# Altium footprint library WA-SMSI.PcbLib: 89 footprints (part 3 of 6)
Each footprint in its own frame and in the unit in brackets; x right, y up, seen from the top. Pads: shape width x height; smd on the part's side, far side on the other; paste and mask are expansions set on the pad; w line width, h text height; cw(c..) or ccw(c..) is an arc to the next point about the centre after c.
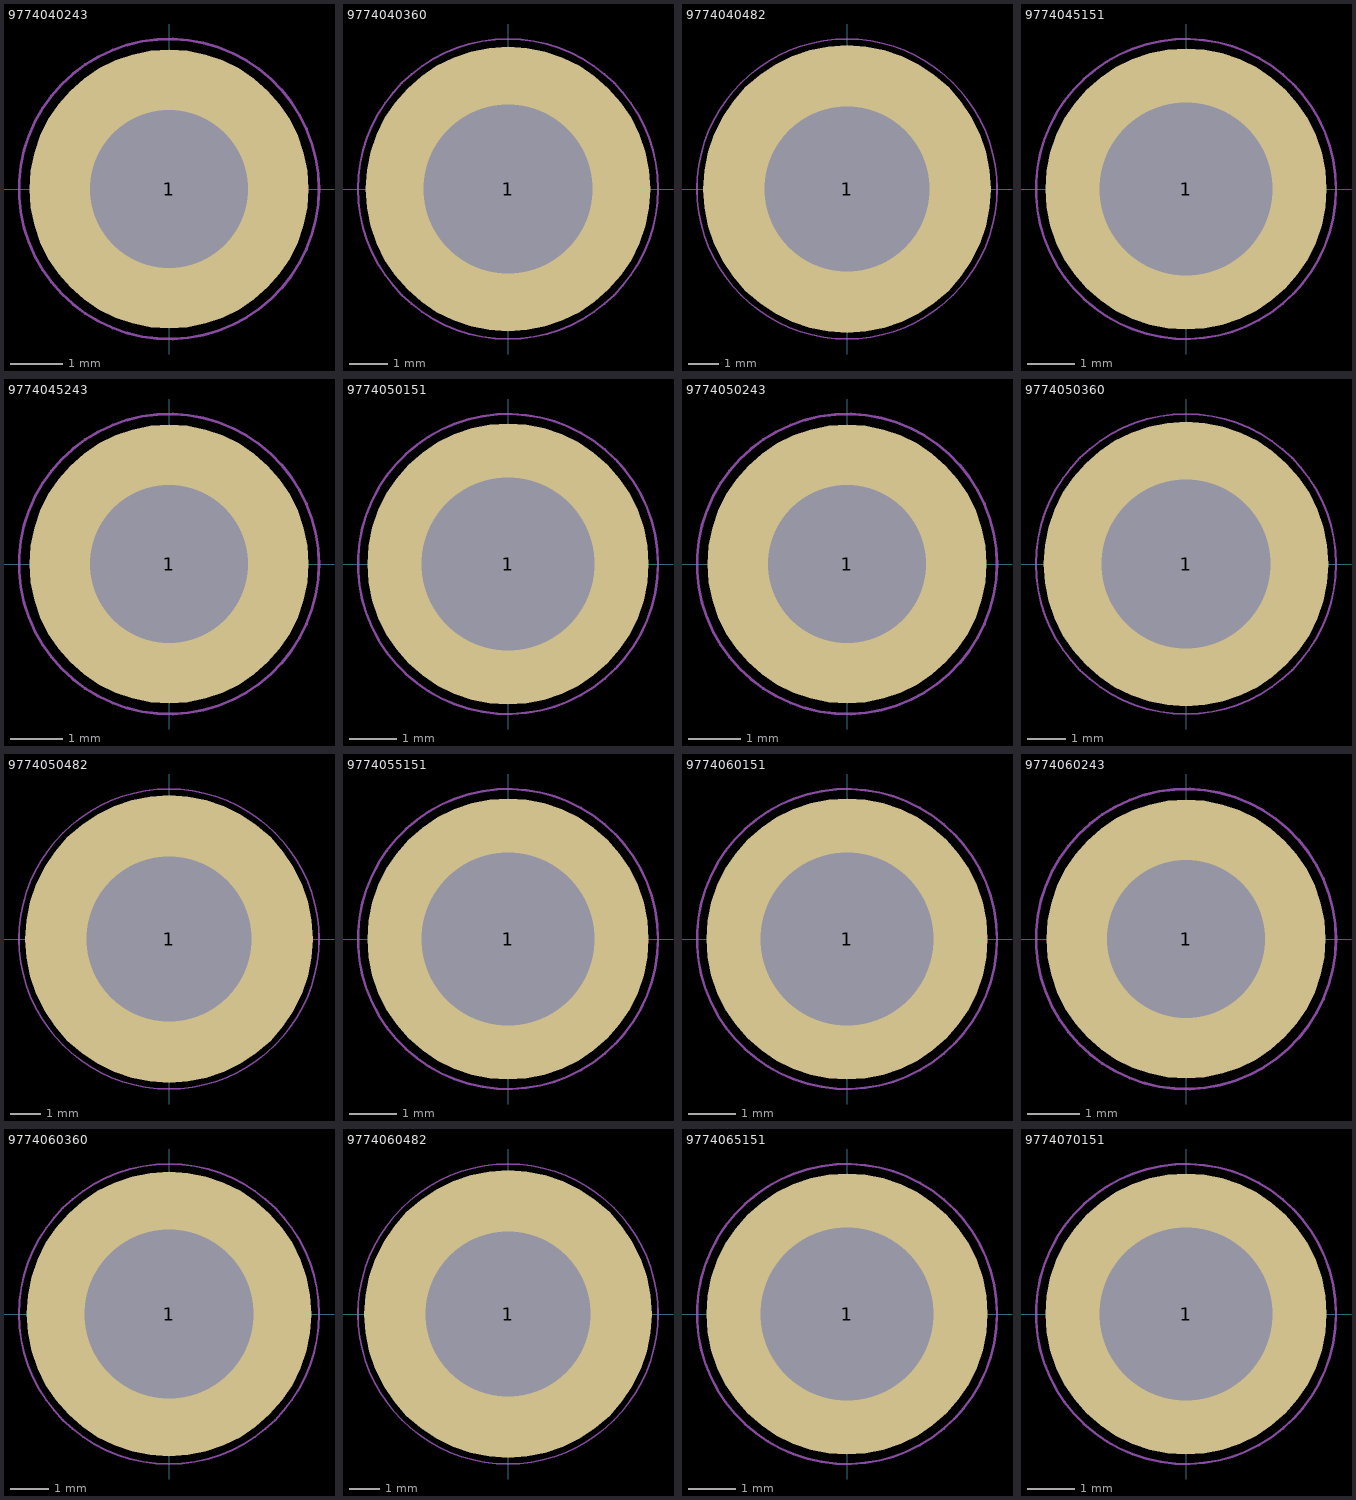
[diagram p2: the footprints below, top view; thin cyan lines are the x and y axes]

## 9774040243 [mm] "SMT Steel Spacer with internal Thread M2, height 4mm"
height 4
pads (1):
  round 5.3 / inner round 0 / far side round 0 hole 3 unplated: 1(0,0)
Top Paste:
  region: 0.3,2.542 0.513,2.517 0.924,2.397 1.31,2.21 1.659,1.962 1.962,1.659 2.21,1.31 2.397,0.924 2.517,0.513 2.542,0.3 1.521,0.3 1.494,0.411 1.418,0.627 1.31,0.829 1.174,1.012 1.012,1.174 0.829,1.31 0.627,1.418 0.411,1.494 0.3,1.521
  region: 2.542,-0.3 2.517,-0.513 2.397,-0.924 2.21,-1.31 1.962,-1.659 1.659,-1.962 1.31,-2.21 0.924,-2.397 0.513,-2.517 0.3,-2.542 0.3,-1.521 0.411,-1.494 0.627,-1.418 0.829,-1.31 1.012,-1.174 1.174,-1.012 1.31,-0.829 1.418,-0.627 1.494,-0.411 1.521,-0.3
  region: -0.3,-2.542 -0.513,-2.517 -0.924,-2.397 -1.31,-2.21 -1.659,-1.962 -1.962,-1.659 -2.21,-1.31 -2.397,-0.924 -2.517,-0.513 -2.542,-0.3 -1.521,-0.3 -1.494,-0.411 -1.418,-0.627 -1.31,-0.829 -1.174,-1.012 -1.012,-1.174 -0.829,-1.31 -0.627,-1.418 -0.411,-1.494 -0.3,-1.521
  region: -2.542,0.3 -2.517,0.513 -2.397,0.924 -2.21,1.31 -1.962,1.659 -1.659,1.962 -1.31,2.21 -0.924,2.397 -0.513,2.517 -0.3,2.542 -0.3,1.521 -0.411,1.494 -0.627,1.418 -0.829,1.31 -1.012,1.174 -1.174,1.012 -1.31,0.829 -1.418,0.627 -1.494,0.411 -1.521,0.3
Top Designator:
  text ".Designator" at -7.498,-0.5 h1.5
Top Component Outline:
  circle w0.1: c0,0 r2.175
Top 3D Body:
  circle w0.1: c0,0 r2.175
Top Courtyard:
  circle w0.05: c0,0 r2.85
  lines w0.05: -0.5,0 0.5,0 ; 0,-0.5 0,0.5
3D body "9774040243.stp": height 4, standoff -1.4, extent -2.175,-2.172 2.175,2.172

## 9774040360 [mm] "M3 Thread Internal, Length 4mm"
height 4
pads (1):
  round 7.4 / inner round 0 / far side round 0 hole 4.4 unplated: 1(0,0)
Top Paste:
  region: 0.4,3.613 0.4,2.204 0.566,2.167 0.886,2.057 1.186,1.9 1.46,1.699 1.699,1.46 1.9,1.186 2.057,0.886 2.167,0.566 2.204,0.4 3.613,0.4 3.59,0.603 3.5,1.003 3.365,1.389 3.188,1.758 2.97,2.105 2.715,2.425 2.426,2.715 2.106,2.97 1.759,3.188 1.39,3.365 1.003,3.5 0.604,3.59 0.4,3.613
  region: 3.613,-0.4 2.204,-0.4 2.167,-0.566 2.057,-0.886 1.9,-1.186 1.699,-1.46 1.46,-1.699 1.186,-1.9 0.886,-2.057 0.566,-2.167 0.4,-2.204 0.4,-3.613 0.603,-3.59 1.003,-3.5 1.389,-3.365 1.758,-3.188 2.105,-2.97 2.425,-2.715 2.715,-2.426 2.97,-2.106 3.188,-1.759 3.365,-1.39 3.5,-1.003 3.59,-0.604 3.613,-0.4
  region: -0.4,-3.613 -0.4,-2.204 -0.566,-2.167 -0.886,-2.057 -1.186,-1.9 -1.46,-1.699 -1.699,-1.46 -1.9,-1.186 -2.057,-0.886 -2.167,-0.566 -2.204,-0.4 -3.613,-0.4 -3.59,-0.603 -3.5,-1.003 -3.365,-1.389 -3.188,-1.758 -2.97,-2.105 -2.715,-2.425 -2.426,-2.715 -2.106,-2.97 -1.759,-3.188 -1.39,-3.365 -1.003,-3.5 -0.604,-3.59 -0.4,-3.613
  region: -3.613,0.4 -2.204,0.4 -2.167,0.566 -2.057,0.886 -1.9,1.186 -1.699,1.46 -1.46,1.699 -1.186,1.9 -0.886,2.057 -0.566,2.167 -0.4,2.204 -0.4,3.613 -0.603,3.59 -1.003,3.5 -1.389,3.365 -1.758,3.188 -2.105,2.97 -2.425,2.715 -2.715,2.426 -2.97,2.106 -3.188,1.759 -3.365,1.39 -3.5,1.003 -3.59,0.604 -3.613,0.4
Top Designator:
  text ".Designator" at -7.498,-0.5 h1.5
Top Component Outline:
  circle w0.1: c0,0 r3
Top 3D Body:
  circle w0.1: c0,0 r3
Top Courtyard:
  circle w0.05: c0,0 r3.9
  lines w0.05: -0.5,0 0.5,0 ; 0,-0.5 0,0.5
3D body "9774040360.stp": height 4, standoff -1.4, extent -3,-3 3,3

## 9774040482 [mm] "SMT Steel Spacer with internal Thread M4, height 4mm"
height 4
pads (1):
  round 9.4 / inner round 0 / far side round 0 hole 5.4 unplated: 1(0,0)
Top Paste:
  region: 0.4,4.618 0.4,2.711 0.615,2.67 1.032,2.538 1.422,2.342 1.777,2.086 2.086,1.777 2.342,1.422 2.538,1.032 2.67,0.615 2.711,0.4 4.618,0.4 4.594,0.669 4.485,1.199 4.316,1.712 4.087,2.202 3.804,2.662 3.469,3.086 3.086,3.469 2.662,3.804 2.202,4.087 1.712,4.316 1.199,4.485 0.669,4.594
  region: 4.618,-0.4 2.711,-0.4 2.67,-0.615 2.538,-1.032 2.342,-1.422 2.086,-1.777 1.777,-2.086 1.422,-2.342 1.032,-2.538 0.615,-2.67 0.4,-2.711 0.4,-4.618 0.669,-4.594 1.199,-4.485 1.712,-4.316 2.202,-4.087 2.662,-3.804 3.086,-3.469 3.469,-3.086 3.804,-2.662 4.087,-2.202 4.316,-1.712 4.485,-1.199 4.594,-0.669
  region: -0.4,-4.618 -0.4,-2.711 -0.615,-2.67 -1.032,-2.538 -1.422,-2.342 -1.777,-2.086 -2.086,-1.777 -2.342,-1.422 -2.538,-1.032 -2.67,-0.615 -2.711,-0.4 -4.618,-0.4 -4.594,-0.669 -4.485,-1.199 -4.316,-1.712 -4.087,-2.202 -3.804,-2.662 -3.469,-3.086 -3.086,-3.469 -2.662,-3.804 -2.202,-4.087 -1.712,-4.316 -1.199,-4.485 -0.669,-4.594
  region: -4.618,0.4 -2.711,0.4 -2.67,0.615 -2.538,1.032 -2.342,1.422 -2.086,1.777 -1.777,2.086 -1.422,2.342 -1.032,2.538 -0.615,2.67 -0.4,2.711 -0.4,4.618 -0.669,4.594 -1.199,4.485 -1.712,4.316 -2.202,4.087 -2.662,3.804 -3.086,3.469 -3.469,3.086 -3.804,2.662 -4.087,2.202 -4.316,1.712 -4.485,1.199 -4.594,0.669
Top Designator:
  text ".Designator" at -7.498,-0.5 h1.5
Top Component Outline:
  circle w0.1: c0,0 r4.1
Top 3D Body:
  circle w0.1: c0,0 r4.1
Top Courtyard:
  circle w0.05: c0,0 r4.9
  lines w0.05: -0.5,0 0.5,0 ; 0,-0.5 0,0.5
3D body "9774040482.stp": height 4, standoff -1.4, extent -4.1,-4.1 4.1,4.1

## 9774045151 [mm] "SMT Steel Spacer with internal Thread M2.5, height 4.5mm"
height 4.5
pads (1):
  round 6 / inner round 0 / far side round 0 hole 3.7 unplated: 1(0,0)
Top Paste:
  region: -2.902,0.325 -2.874,0.57 -2.738,1.044 -2.524,1.488 -2.239,1.89 -1.89,2.239 -1.488,2.524 -1.044,2.738 -0.57,2.874 -0.325,2.902 -0.325,1.872 -0.467,1.842 -0.743,1.749 -1.002,1.615 -1.237,1.443 -1.442,1.237 -1.614,1.002 -1.748,0.744 -1.842,0.468 -1.872,0.325
  region: -0.325,-2.902 -0.57,-2.874 -1.044,-2.738 -1.488,-2.524 -1.89,-2.239 -2.239,-1.89 -2.524,-1.488 -2.738,-1.044 -2.874,-0.57 -2.902,-0.325 -1.872,-0.325 -1.842,-0.467 -1.749,-0.743 -1.615,-1.002 -1.443,-1.237 -1.237,-1.442 -1.002,-1.614 -0.744,-1.748 -0.468,-1.842 -0.325,-1.872
  region: 2.902,-0.325 2.874,-0.57 2.738,-1.044 2.524,-1.488 2.239,-1.89 1.89,-2.239 1.488,-2.524 1.044,-2.738 0.57,-2.874 0.325,-2.902 0.325,-1.872 0.467,-1.842 0.743,-1.749 1.002,-1.615 1.237,-1.443 1.442,-1.237 1.614,-1.002 1.748,-0.744 1.842,-0.468 1.872,-0.325
  region: 0.325,2.902 0.57,2.874 1.044,2.738 1.488,2.524 1.89,2.239 2.239,1.89 2.524,1.488 2.738,1.044 2.874,0.57 2.902,0.325 1.872,0.325 1.842,0.467 1.749,0.743 1.615,1.002 1.443,1.237 1.237,1.442 1.002,1.614 0.744,1.748 0.468,1.842 0.325,1.872
Top Designator:
  text ".Designator" at -7.498,-0.5 h1.5
Top Component Outline:
  circle w0.1: c0,0 r2.55
Top 3D Body:
  circle w0.1: c0,0 r2.55
Top Courtyard:
  circle w0.05: c0,0 r3.2
  lines w0.05: -0.5,0 0.5,0 ; 0,-0.5 0,0.5
3D body "9774045151.stp": height 4.5, standoff -1.4, extent -2.55,-2.547 2.55,2.547

## 9774045243 [mm] "SMT Steel Spacer with internal Thread M2, height 4.5mm"
height 4.5
pads (1):
  round 5.3 / inner round 0 / far side round 0 hole 3 unplated: 1(0,0)
Top Paste:
  region: -2.542,0.3 -2.517,0.513 -2.397,0.924 -2.21,1.31 -1.962,1.659 -1.659,1.962 -1.31,2.21 -0.924,2.397 -0.513,2.517 -0.3,2.542 -0.3,1.521 -0.411,1.494 -0.627,1.418 -0.829,1.31 -1.012,1.174 -1.174,1.012 -1.31,0.829 -1.418,0.627 -1.494,0.411 -1.521,0.3
  region: -0.3,-2.542 -0.513,-2.517 -0.924,-2.397 -1.31,-2.21 -1.659,-1.962 -1.962,-1.659 -2.21,-1.31 -2.397,-0.924 -2.517,-0.513 -2.542,-0.3 -1.521,-0.3 -1.494,-0.411 -1.418,-0.627 -1.31,-0.829 -1.174,-1.012 -1.012,-1.174 -0.829,-1.31 -0.627,-1.418 -0.411,-1.494 -0.3,-1.521
  region: 2.542,-0.3 2.517,-0.513 2.397,-0.924 2.21,-1.31 1.962,-1.659 1.659,-1.962 1.31,-2.21 0.924,-2.397 0.513,-2.517 0.3,-2.542 0.3,-1.521 0.411,-1.494 0.627,-1.418 0.829,-1.31 1.012,-1.174 1.174,-1.012 1.31,-0.829 1.418,-0.627 1.494,-0.411 1.521,-0.3
  region: 0.3,2.542 0.513,2.517 0.924,2.397 1.31,2.21 1.659,1.962 1.962,1.659 2.21,1.31 2.397,0.924 2.517,0.513 2.542,0.3 1.521,0.3 1.494,0.411 1.418,0.627 1.31,0.829 1.174,1.012 1.012,1.174 0.829,1.31 0.627,1.418 0.411,1.494 0.3,1.521
Top Designator:
  text ".Designator" at -7.498,-0.5 h1.5
Top Component Outline:
  circle w0.1: c0,0 r2.175
Top 3D Body:
  circle w0.1: c0,0 r2.175
Top Courtyard:
  circle w0.05: c0,0 r2.85
  lines w0.05: -0.5,0 0.5,0 ; 0,-0.5 0,0.5
3D body "9774045243.stp": height 4.5, standoff -1.4, extent -2.175,-2.172 2.175,2.172

## 9774050151 [mm] "SMT Steel Spacer with internal Thread M2.5, height 5mm"
height 5
pads (1):
  round 6 / inner round 0 / far side round 0 hole 3.7 unplated: 1(0,0)
Top Paste:
  region: -2.902,0.325 -2.874,0.57 -2.738,1.044 -2.524,1.488 -2.239,1.89 -1.89,2.239 -1.488,2.524 -1.044,2.738 -0.57,2.874 -0.325,2.902 -0.325,1.872 -0.467,1.842 -0.743,1.749 -1.002,1.615 -1.237,1.443 -1.442,1.237 -1.614,1.002 -1.748,0.744 -1.842,0.468 -1.872,0.325
  region: -0.325,-2.902 -0.57,-2.874 -1.044,-2.738 -1.488,-2.524 -1.89,-2.239 -2.239,-1.89 -2.524,-1.488 -2.738,-1.044 -2.874,-0.57 -2.902,-0.325 -1.872,-0.325 -1.842,-0.467 -1.749,-0.743 -1.615,-1.002 -1.443,-1.237 -1.237,-1.442 -1.002,-1.614 -0.744,-1.748 -0.468,-1.842 -0.325,-1.872
  region: 2.902,-0.325 2.874,-0.57 2.738,-1.044 2.524,-1.488 2.239,-1.89 1.89,-2.239 1.488,-2.524 1.044,-2.738 0.57,-2.874 0.325,-2.902 0.325,-1.872 0.467,-1.842 0.743,-1.749 1.002,-1.615 1.237,-1.443 1.442,-1.237 1.614,-1.002 1.748,-0.744 1.842,-0.468 1.872,-0.325
  region: 0.325,2.902 0.57,2.874 1.044,2.738 1.488,2.524 1.89,2.239 2.239,1.89 2.524,1.488 2.738,1.044 2.874,0.57 2.902,0.325 1.872,0.325 1.842,0.467 1.749,0.743 1.615,1.002 1.443,1.237 1.237,1.442 1.002,1.614 0.744,1.748 0.468,1.842 0.325,1.872
Top Designator:
  text ".Designator" at -7.498,-0.5 h1.5
Top Component Outline:
  circle w0.1: c0,0 r2.55
Top 3D Body:
  circle w0.1: c0,0 r2.55
Top Courtyard:
  circle w0.05: c0,0 r3.2
  lines w0.05: -0.5,0 0.5,0 ; 0,-0.5 0,0.5
3D body "9774050151.stp": height 5, standoff -1.4, extent -2.55,-2.547 2.55,2.547

## 9774050243 [mm] "SMT Steel Spacer with internal Thread M2, height 5mm"
height 5
pads (1):
  round 5.3 / inner round 0 / far side round 0 hole 3 unplated: 1(0,0)
Top Paste:
  region: -2.542,0.3 -2.517,0.513 -2.397,0.924 -2.21,1.31 -1.962,1.659 -1.659,1.962 -1.31,2.21 -0.924,2.397 -0.513,2.517 -0.3,2.542 -0.3,1.521 -0.411,1.494 -0.627,1.418 -0.829,1.31 -1.012,1.174 -1.174,1.012 -1.31,0.829 -1.418,0.627 -1.494,0.411 -1.521,0.3
  region: -0.3,-2.542 -0.513,-2.517 -0.924,-2.397 -1.31,-2.21 -1.659,-1.962 -1.962,-1.659 -2.21,-1.31 -2.397,-0.924 -2.517,-0.513 -2.542,-0.3 -1.521,-0.3 -1.494,-0.411 -1.418,-0.627 -1.31,-0.829 -1.174,-1.012 -1.012,-1.174 -0.829,-1.31 -0.627,-1.418 -0.411,-1.494 -0.3,-1.521
  region: 2.542,-0.3 2.517,-0.513 2.397,-0.924 2.21,-1.31 1.962,-1.659 1.659,-1.962 1.31,-2.21 0.924,-2.397 0.513,-2.517 0.3,-2.542 0.3,-1.521 0.411,-1.494 0.627,-1.418 0.829,-1.31 1.012,-1.174 1.174,-1.012 1.31,-0.829 1.418,-0.627 1.494,-0.411 1.521,-0.3
  region: 0.3,2.542 0.513,2.517 0.924,2.397 1.31,2.21 1.659,1.962 1.962,1.659 2.21,1.31 2.397,0.924 2.517,0.513 2.542,0.3 1.521,0.3 1.494,0.411 1.418,0.627 1.31,0.829 1.174,1.012 1.012,1.174 0.829,1.31 0.627,1.418 0.411,1.494 0.3,1.521
Top Designator:
  text ".Designator" at -7.498,-0.5 h1.5
Top Component Outline:
  circle w0.1: c0,0 r2.175
Top 3D Body:
  circle w0.1: c0,0 r2.175
Top Courtyard:
  circle w0.05: c0,0 r2.85
  lines w0.05: -0.5,0 0.5,0 ; 0,-0.5 0,0.5
3D body "9774050243.stp": height 5, standoff -1.4, extent -2.175,-2.172 2.175,2.172

## 9774050360 [mm] "M3 Thread Internal, Length 5mm"
height 5
pads (1):
  round 7.4 / inner round 0 / far side round 0 hole 4.4 unplated: 1(0,0)
Top Paste:
  region: -3.613,0.4 -2.204,0.4 -2.167,0.566 -2.057,0.886 -1.9,1.186 -1.699,1.46 -1.46,1.699 -1.186,1.9 -0.886,2.057 -0.566,2.167 -0.4,2.204 -0.4,3.613 -0.603,3.59 -1.003,3.5 -1.389,3.365 -1.758,3.188 -2.105,2.97 -2.425,2.715 -2.715,2.426 -2.97,2.106 -3.188,1.759 -3.365,1.39 -3.5,1.003 -3.59,0.604 -3.613,0.4
  region: -0.4,-3.613 -0.4,-2.204 -0.566,-2.167 -0.886,-2.057 -1.186,-1.9 -1.46,-1.699 -1.699,-1.46 -1.9,-1.186 -2.057,-0.886 -2.167,-0.566 -2.204,-0.4 -3.613,-0.4 -3.59,-0.603 -3.5,-1.003 -3.365,-1.389 -3.188,-1.758 -2.97,-2.105 -2.715,-2.425 -2.426,-2.715 -2.106,-2.97 -1.759,-3.188 -1.39,-3.365 -1.003,-3.5 -0.604,-3.59 -0.4,-3.613
  region: 3.613,-0.4 2.204,-0.4 2.167,-0.566 2.057,-0.886 1.9,-1.186 1.699,-1.46 1.46,-1.699 1.186,-1.9 0.886,-2.057 0.566,-2.167 0.4,-2.204 0.4,-3.613 0.603,-3.59 1.003,-3.5 1.389,-3.365 1.758,-3.188 2.105,-2.97 2.425,-2.715 2.715,-2.426 2.97,-2.106 3.188,-1.759 3.365,-1.39 3.5,-1.003 3.59,-0.604 3.613,-0.4
  region: 0.4,3.613 0.4,2.204 0.566,2.167 0.886,2.057 1.186,1.9 1.46,1.699 1.699,1.46 1.9,1.186 2.057,0.886 2.167,0.566 2.204,0.4 3.613,0.4 3.59,0.603 3.5,1.003 3.365,1.389 3.188,1.758 2.97,2.105 2.715,2.425 2.426,2.715 2.106,2.97 1.759,3.188 1.39,3.365 1.003,3.5 0.604,3.59 0.4,3.613
Top Designator:
  text ".Designator" at -7.498,-0.5 h1.5
Top Component Outline:
  circle w0.1: c0,0 r3
Top 3D Body:
  circle w0.1: c0,0 r3
Top Courtyard:
  circle w0.05: c0,0 r3.9
  lines w0.05: -0.5,0 0.5,0 ; 0,-0.5 0,0.5
3D body "9774050360.stp": height 5, standoff -1.4, extent -3,-3 3,3

## 9774050482 [mm] "SMT Steel Spacer with internal Thread M4, height 5mm"
height 5
pads (1):
  round 9.4 / inner round 0 / far side round 0 hole 5.4 unplated: 1(0,0)
Top Paste:
  region: 0.4,4.618 0.4,2.711 0.615,2.67 1.032,2.538 1.422,2.342 1.777,2.086 2.086,1.777 2.342,1.422 2.538,1.032 2.67,0.615 2.711,0.4 4.618,0.4 4.594,0.669 4.485,1.199 4.316,1.712 4.087,2.202 3.804,2.662 3.469,3.086 3.086,3.469 2.662,3.804 2.202,4.087 1.712,4.316 1.199,4.485 0.669,4.594
  region: 4.618,-0.4 2.711,-0.4 2.67,-0.615 2.538,-1.032 2.342,-1.422 2.086,-1.777 1.777,-2.086 1.422,-2.342 1.032,-2.538 0.615,-2.67 0.4,-2.711 0.4,-4.618 0.669,-4.594 1.199,-4.485 1.712,-4.316 2.202,-4.087 2.662,-3.804 3.086,-3.469 3.469,-3.086 3.804,-2.662 4.087,-2.202 4.316,-1.712 4.485,-1.199 4.594,-0.669
  region: -0.4,-4.618 -0.4,-2.711 -0.615,-2.67 -1.032,-2.538 -1.422,-2.342 -1.777,-2.086 -2.086,-1.777 -2.342,-1.422 -2.538,-1.032 -2.67,-0.615 -2.711,-0.4 -4.618,-0.4 -4.594,-0.669 -4.485,-1.199 -4.316,-1.712 -4.087,-2.202 -3.804,-2.662 -3.469,-3.086 -3.086,-3.469 -2.662,-3.804 -2.202,-4.087 -1.712,-4.316 -1.199,-4.485 -0.669,-4.594
  region: -4.618,0.4 -2.711,0.4 -2.67,0.615 -2.538,1.032 -2.342,1.422 -2.086,1.777 -1.777,2.086 -1.422,2.342 -1.032,2.538 -0.615,2.67 -0.4,2.711 -0.4,4.618 -0.669,4.594 -1.199,4.485 -1.712,4.316 -2.202,4.087 -2.662,3.804 -3.086,3.469 -3.469,3.086 -3.804,2.662 -4.087,2.202 -4.316,1.712 -4.485,1.199 -4.594,0.669
Top Designator:
  text ".Designator" at -7.498,-0.5 h1.5
Top Component Outline:
  circle w0.1: c0,0 r4.1
Top 3D Body:
  circle w0.1: c0,0 r4.1
Top Courtyard:
  circle w0.05: c0,0 r4.9
  lines w0.05: -0.5,0 0.5,0 ; 0,-0.5 0,0.5
3D body "9774050482.stp": height 5, standoff -1.4, extent -4.1,-4.1 4.1,4.1

## 9774055151 [mm] "SMT Steel Spacer with internal Thread M2.5, height 5.5mm"
height 5.5
pads (1):
  round 6 / inner round 0 / far side round 0 hole 3.7 unplated: 1(0,0)
Top Paste:
  region: -2.902,0.325 -2.874,0.57 -2.738,1.044 -2.524,1.488 -2.239,1.89 -1.89,2.239 -1.488,2.524 -1.044,2.738 -0.57,2.874 -0.325,2.902 -0.325,1.872 -0.467,1.842 -0.743,1.749 -1.002,1.615 -1.237,1.443 -1.442,1.237 -1.614,1.002 -1.748,0.744 -1.842,0.468 -1.872,0.325
  region: -0.325,-2.902 -0.57,-2.874 -1.044,-2.738 -1.488,-2.524 -1.89,-2.239 -2.239,-1.89 -2.524,-1.488 -2.738,-1.044 -2.874,-0.57 -2.902,-0.325 -1.872,-0.325 -1.842,-0.467 -1.749,-0.743 -1.615,-1.002 -1.443,-1.237 -1.237,-1.442 -1.002,-1.614 -0.744,-1.748 -0.468,-1.842 -0.325,-1.872
  region: 2.902,-0.325 2.874,-0.57 2.738,-1.044 2.524,-1.488 2.239,-1.89 1.89,-2.239 1.488,-2.524 1.044,-2.738 0.57,-2.874 0.325,-2.902 0.325,-1.872 0.467,-1.842 0.743,-1.749 1.002,-1.615 1.237,-1.443 1.442,-1.237 1.614,-1.002 1.748,-0.744 1.842,-0.468 1.872,-0.325
  region: 0.325,2.902 0.57,2.874 1.044,2.738 1.488,2.524 1.89,2.239 2.239,1.89 2.524,1.488 2.738,1.044 2.874,0.57 2.902,0.325 1.872,0.325 1.842,0.467 1.749,0.743 1.615,1.002 1.443,1.237 1.237,1.442 1.002,1.614 0.744,1.748 0.468,1.842 0.325,1.872
Top Designator:
  text ".Designator" at -7.498,-0.5 h1.5
Top Component Outline:
  circle w0.1: c0,0 r2.55
Top 3D Body:
  circle w0.1: c0,0 r2.55
Top Courtyard:
  circle w0.05: c0,0 r3.2
  lines w0.05: -0.5,0 0.5,0 ; 0,-0.5 0,0.5
3D body "9774055151.stp": height 5.5, standoff -1.4, extent -2.55,-2.547 2.55,2.547

## 9774060151 [mm] "SMT Steel Spacer with internal Thread M2.5, height 6mm"
height 6
pads (1):
  round 6 / inner round 0 / far side round 0 hole 3.7 unplated: 1(0,0)
Top Paste:
  region: 0.325,2.902 0.57,2.874 1.044,2.738 1.488,2.524 1.89,2.239 2.239,1.89 2.524,1.488 2.738,1.044 2.874,0.57 2.902,0.325 1.872,0.325 1.842,0.467 1.749,0.743 1.615,1.002 1.443,1.237 1.237,1.442 1.002,1.614 0.744,1.748 0.468,1.842 0.325,1.872
  region: 2.902,-0.325 2.874,-0.57 2.738,-1.044 2.524,-1.488 2.239,-1.89 1.89,-2.239 1.488,-2.524 1.044,-2.738 0.57,-2.874 0.325,-2.902 0.325,-1.872 0.467,-1.842 0.743,-1.749 1.002,-1.615 1.237,-1.443 1.442,-1.237 1.614,-1.002 1.748,-0.744 1.842,-0.468 1.872,-0.325
  region: -0.325,-2.902 -0.57,-2.874 -1.044,-2.738 -1.488,-2.524 -1.89,-2.239 -2.239,-1.89 -2.524,-1.488 -2.738,-1.044 -2.874,-0.57 -2.902,-0.325 -1.872,-0.325 -1.842,-0.467 -1.749,-0.743 -1.615,-1.002 -1.443,-1.237 -1.237,-1.442 -1.002,-1.614 -0.744,-1.748 -0.468,-1.842 -0.325,-1.872
  region: -2.902,0.325 -2.874,0.57 -2.738,1.044 -2.524,1.488 -2.239,1.89 -1.89,2.239 -1.488,2.524 -1.044,2.738 -0.57,2.874 -0.325,2.902 -0.325,1.872 -0.467,1.842 -0.743,1.749 -1.002,1.615 -1.237,1.443 -1.442,1.237 -1.614,1.002 -1.748,0.744 -1.842,0.468 -1.872,0.325
Top Designator:
  text ".Designator" at -7.498,-0.5 h1.5
Top Component Outline:
  circle w0.1: c0,0 r2.55
Top 3D Body:
  circle w0.1: c0,0 r2.55
Top Courtyard:
  circle w0.05: c0,0 r3.2
  lines w0.05: -0.5,0 0.5,0 ; 0,-0.5 0,0.5
3D body "9774060151.stp": height 6, standoff -1.4, extent -2.55,-2.547 2.55,2.547

## 9774060243 [mm] "SMT Steel Spacer with internal Thread M2, height 6mm"
height 6
pads (1):
  round 5.3 / inner round 0 / far side round 0 hole 3 unplated: 1(0,0)
Top Paste:
  region: 0.3,2.542 0.513,2.517 0.924,2.397 1.31,2.21 1.659,1.962 1.962,1.659 2.21,1.31 2.397,0.924 2.517,0.513 2.542,0.3 1.521,0.3 1.494,0.411 1.418,0.627 1.31,0.829 1.174,1.012 1.012,1.174 0.829,1.31 0.627,1.418 0.411,1.494 0.3,1.521
  region: 2.542,-0.3 2.517,-0.513 2.397,-0.924 2.21,-1.31 1.962,-1.659 1.659,-1.962 1.31,-2.21 0.924,-2.397 0.513,-2.517 0.3,-2.542 0.3,-1.521 0.411,-1.494 0.627,-1.418 0.829,-1.31 1.012,-1.174 1.174,-1.012 1.31,-0.829 1.418,-0.627 1.494,-0.411 1.521,-0.3
  region: -0.3,-2.542 -0.513,-2.517 -0.924,-2.397 -1.31,-2.21 -1.659,-1.962 -1.962,-1.659 -2.21,-1.31 -2.397,-0.924 -2.517,-0.513 -2.542,-0.3 -1.521,-0.3 -1.494,-0.411 -1.418,-0.627 -1.31,-0.829 -1.174,-1.012 -1.012,-1.174 -0.829,-1.31 -0.627,-1.418 -0.411,-1.494 -0.3,-1.521
  region: -2.542,0.3 -2.517,0.513 -2.397,0.924 -2.21,1.31 -1.962,1.659 -1.659,1.962 -1.31,2.21 -0.924,2.397 -0.513,2.517 -0.3,2.542 -0.3,1.521 -0.411,1.494 -0.627,1.418 -0.829,1.31 -1.012,1.174 -1.174,1.012 -1.31,0.829 -1.418,0.627 -1.494,0.411 -1.521,0.3
Top Designator:
  text ".Designator" at -7.498,-0.5 h1.5
Top Component Outline:
  circle w0.1: c0,0 r2.175
Top 3D Body:
  circle w0.1: c0,0 r2.175
Top Courtyard:
  circle w0.05: c0,0 r2.85
  lines w0.05: -0.5,0 0.5,0 ; 0,-0.5 0,0.5
3D body "9774060243.stp": height 6, standoff -1.4, extent -2.175,-2.172 2.175,2.172

## 9774060360 [mm] "M3 Thread Internal, Length 6mm"
height 6
pads (1):
  round 7.4 / inner round 0 / far side round 0 hole 4.4 unplated: 1(0,0)
Top Paste:
  region: -3.613,0.4 -2.204,0.4 -2.167,0.566 -2.057,0.886 -1.9,1.186 -1.699,1.46 -1.46,1.699 -1.186,1.9 -0.886,2.057 -0.566,2.167 -0.4,2.204 -0.4,3.613 -0.603,3.59 -1.003,3.5 -1.389,3.365 -1.758,3.188 -2.105,2.97 -2.425,2.715 -2.715,2.426 -2.97,2.106 -3.188,1.759 -3.365,1.39 -3.5,1.003 -3.59,0.604 -3.613,0.4
  region: -0.4,-3.613 -0.4,-2.204 -0.566,-2.167 -0.886,-2.057 -1.186,-1.9 -1.46,-1.699 -1.699,-1.46 -1.9,-1.186 -2.057,-0.886 -2.167,-0.566 -2.204,-0.4 -3.613,-0.4 -3.59,-0.603 -3.5,-1.003 -3.365,-1.389 -3.188,-1.758 -2.97,-2.105 -2.715,-2.425 -2.426,-2.715 -2.106,-2.97 -1.759,-3.188 -1.39,-3.365 -1.003,-3.5 -0.604,-3.59 -0.4,-3.613
  region: 3.613,-0.4 2.204,-0.4 2.167,-0.566 2.057,-0.886 1.9,-1.186 1.699,-1.46 1.46,-1.699 1.186,-1.9 0.886,-2.057 0.566,-2.167 0.4,-2.204 0.4,-3.613 0.603,-3.59 1.003,-3.5 1.389,-3.365 1.758,-3.188 2.105,-2.97 2.425,-2.715 2.715,-2.426 2.97,-2.106 3.188,-1.759 3.365,-1.39 3.5,-1.003 3.59,-0.604 3.613,-0.4
  region: 0.4,3.613 0.4,2.204 0.566,2.167 0.886,2.057 1.186,1.9 1.46,1.699 1.699,1.46 1.9,1.186 2.057,0.886 2.167,0.566 2.204,0.4 3.613,0.4 3.59,0.603 3.5,1.003 3.365,1.389 3.188,1.758 2.97,2.105 2.715,2.425 2.426,2.715 2.106,2.97 1.759,3.188 1.39,3.365 1.003,3.5 0.604,3.59 0.4,3.613
Top Designator:
  text ".Designator" at -7.498,-0.5 h1.5
Top Component Outline:
  circle w0.1: c0,0 r3
Top 3D Body:
  circle w0.1: c0,0 r3
Top Courtyard:
  circle w0.05: c0,0 r3.9
  lines w0.05: -0.5,0 0.5,0 ; 0,-0.5 0,0.5
3D body "9774060360.stp": height 6, standoff -1.4, extent -3,-3 3,3

## 9774060482 [mm] "SMT Steel Spacer with internal Thread M4, height 6mm"
height 6
pads (1):
  round 9.4 / inner round 0 / far side round 0 hole 5.4 unplated: 1(0,0)
Top Paste:
  region: -4.618,0.4 -2.711,0.4 -2.67,0.615 -2.538,1.032 -2.342,1.422 -2.086,1.777 -1.777,2.086 -1.422,2.342 -1.032,2.538 -0.615,2.67 -0.4,2.711 -0.4,4.618 -0.669,4.594 -1.199,4.485 -1.712,4.316 -2.202,4.087 -2.662,3.804 -3.086,3.469 -3.469,3.086 -3.804,2.662 -4.087,2.202 -4.316,1.712 -4.485,1.199 -4.594,0.669
  region: -0.4,-4.618 -0.4,-2.711 -0.615,-2.67 -1.032,-2.538 -1.422,-2.342 -1.777,-2.086 -2.086,-1.777 -2.342,-1.422 -2.538,-1.032 -2.67,-0.615 -2.711,-0.4 -4.618,-0.4 -4.594,-0.669 -4.485,-1.199 -4.316,-1.712 -4.087,-2.202 -3.804,-2.662 -3.469,-3.086 -3.086,-3.469 -2.662,-3.804 -2.202,-4.087 -1.712,-4.316 -1.199,-4.485 -0.669,-4.594
  region: 4.618,-0.4 2.711,-0.4 2.67,-0.615 2.538,-1.032 2.342,-1.422 2.086,-1.777 1.777,-2.086 1.422,-2.342 1.032,-2.538 0.615,-2.67 0.4,-2.711 0.4,-4.618 0.669,-4.594 1.199,-4.485 1.712,-4.316 2.202,-4.087 2.662,-3.804 3.086,-3.469 3.469,-3.086 3.804,-2.662 4.087,-2.202 4.316,-1.712 4.485,-1.199 4.594,-0.669
  region: 0.4,4.618 0.4,2.711 0.615,2.67 1.032,2.538 1.422,2.342 1.777,2.086 2.086,1.777 2.342,1.422 2.538,1.032 2.67,0.615 2.711,0.4 4.618,0.4 4.594,0.669 4.485,1.199 4.316,1.712 4.087,2.202 3.804,2.662 3.469,3.086 3.086,3.469 2.662,3.804 2.202,4.087 1.712,4.316 1.199,4.485 0.669,4.594
Top Designator:
  text ".Designator" at -7.498,-0.5 h1.5
Top Component Outline:
  circle w0.1: c0,0 r4.1
Top 3D Body:
  circle w0.1: c0,0 r4.1
Top Courtyard:
  circle w0.05: c0,0 r4.9
  lines w0.05: -0.5,0 0.5,0 ; 0,-0.5 0,0.5
3D body "9774060482.stp": height 6, standoff -1.4, extent -4.1,-4.1 4.1,4.1

## 9774065151 [mm] "SMT Steel Spacer with internal Thread M2.5, height 6.5mm"
height 6.5
pads (1):
  round 6 / inner round 0 / far side round 0 hole 3.7 unplated: 1(0,0)
Top Paste:
  region: -2.902,0.325 -2.874,0.57 -2.738,1.044 -2.524,1.488 -2.239,1.89 -1.89,2.239 -1.488,2.524 -1.044,2.738 -0.57,2.874 -0.325,2.902 -0.325,1.872 -0.467,1.842 -0.743,1.749 -1.002,1.615 -1.237,1.443 -1.442,1.237 -1.614,1.002 -1.748,0.744 -1.842,0.468 -1.872,0.325
  region: -0.325,-2.902 -0.57,-2.874 -1.044,-2.738 -1.488,-2.524 -1.89,-2.239 -2.239,-1.89 -2.524,-1.488 -2.738,-1.044 -2.874,-0.57 -2.902,-0.325 -1.872,-0.325 -1.842,-0.467 -1.749,-0.743 -1.615,-1.002 -1.443,-1.237 -1.237,-1.442 -1.002,-1.614 -0.744,-1.748 -0.468,-1.842 -0.325,-1.872
  region: 2.902,-0.325 2.874,-0.57 2.738,-1.044 2.524,-1.488 2.239,-1.89 1.89,-2.239 1.488,-2.524 1.044,-2.738 0.57,-2.874 0.325,-2.902 0.325,-1.872 0.467,-1.842 0.743,-1.749 1.002,-1.615 1.237,-1.443 1.442,-1.237 1.614,-1.002 1.748,-0.744 1.842,-0.468 1.872,-0.325
  region: 0.325,2.902 0.57,2.874 1.044,2.738 1.488,2.524 1.89,2.239 2.239,1.89 2.524,1.488 2.738,1.044 2.874,0.57 2.902,0.325 1.872,0.325 1.842,0.467 1.749,0.743 1.615,1.002 1.443,1.237 1.237,1.442 1.002,1.614 0.744,1.748 0.468,1.842 0.325,1.872
Top Designator:
  text ".Designator" at -7.498,-0.5 h1.5
Top Component Outline:
  circle w0.1: c0,0 r2.55
Top 3D Body:
  circle w0.1: c0,0 r2.55
Top Courtyard:
  circle w0.05: c0,0 r3.2
  lines w0.05: -0.5,0 0.5,0 ; 0,-0.5 0,0.5
3D body "9774065151.stp": height 6.5, standoff -1.4, extent -2.55,-2.547 2.55,2.547

## 9774070151 [mm] "SMT Steel Spacer with internal Thread M2.5, height 7mm"
height 7
pads (1):
  round 6 / inner round 0 / far side round 0 hole 3.7 unplated: 1(0,0)
Top Paste:
  region: -2.902,0.325 -2.874,0.57 -2.738,1.044 -2.524,1.488 -2.239,1.89 -1.89,2.239 -1.488,2.524 -1.044,2.738 -0.57,2.874 -0.325,2.902 -0.325,1.872 -0.467,1.842 -0.743,1.749 -1.002,1.615 -1.237,1.443 -1.442,1.237 -1.614,1.002 -1.748,0.744 -1.842,0.468 -1.872,0.325
  region: -0.325,-2.902 -0.57,-2.874 -1.044,-2.738 -1.488,-2.524 -1.89,-2.239 -2.239,-1.89 -2.524,-1.488 -2.738,-1.044 -2.874,-0.57 -2.902,-0.325 -1.872,-0.325 -1.842,-0.467 -1.749,-0.743 -1.615,-1.002 -1.443,-1.237 -1.237,-1.442 -1.002,-1.614 -0.744,-1.748 -0.468,-1.842 -0.325,-1.872
  region: 2.902,-0.325 2.874,-0.57 2.738,-1.044 2.524,-1.488 2.239,-1.89 1.89,-2.239 1.488,-2.524 1.044,-2.738 0.57,-2.874 0.325,-2.902 0.325,-1.872 0.467,-1.842 0.743,-1.749 1.002,-1.615 1.237,-1.443 1.442,-1.237 1.614,-1.002 1.748,-0.744 1.842,-0.468 1.872,-0.325
  region: 0.325,2.902 0.57,2.874 1.044,2.738 1.488,2.524 1.89,2.239 2.239,1.89 2.524,1.488 2.738,1.044 2.874,0.57 2.902,0.325 1.872,0.325 1.842,0.467 1.749,0.743 1.615,1.002 1.443,1.237 1.237,1.442 1.002,1.614 0.744,1.748 0.468,1.842 0.325,1.872
Top Designator:
  text ".Designator" at -7.498,-0.5 h1.5
Top Component Outline:
  circle w0.1: c0,0 r2.55
Top 3D Body:
  circle w0.1: c0,0 r2.55
Top Courtyard:
  circle w0.05: c0,0 r3.2
  lines w0.05: -0.5,0 0.5,0 ; 0,-0.5 0,0.5
3D body "9774070151.stp": height 7, standoff -1.4, extent -2.55,-2.547 2.55,2.547